# Altium footprint library TPS7A49.PcbLib: 3 footprints
Each footprint in its own frame and in the unit in brackets; x right, y up, seen from the top. Pads: shape width x height; smd on the part's side, far side on the other; paste and mask are expansions set on the pad; w line width, h text height; cw(c..) or ccw(c..) is an arc to the next point about the centre after c.
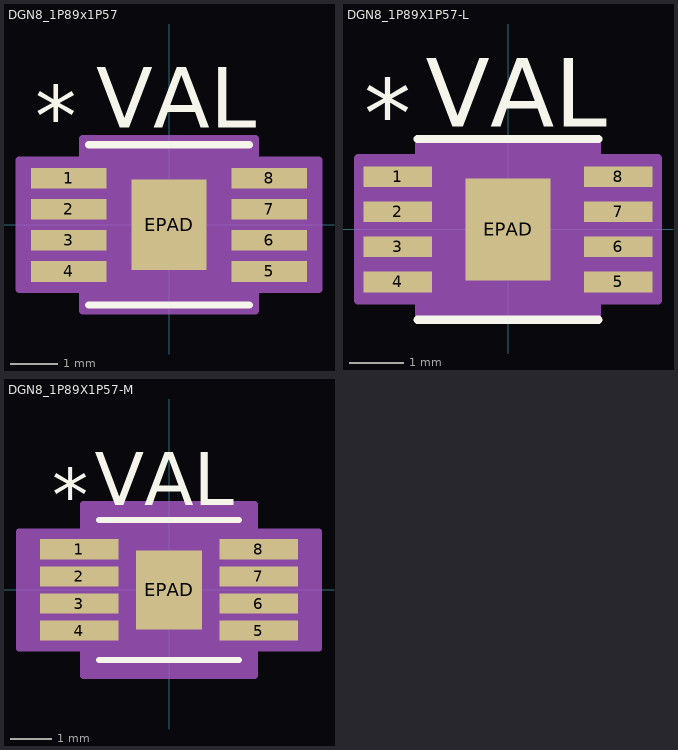
[diagram p0: the footprints below, top view; thin cyan lines are the x and y axes]

## DGN8_1P89x1P57 [mil]
pads (9):
  rect 62x17 smd: 1(-82.5,38.39) 2(-82.5,12.8) 3(-82.5,-12.8) 4(-82.5,-38.39) 5(82.5,-38.39) 6(82.5,-12.8) 7(82.5,12.8) 8(82.5,38.39)
  rect 61.81x74.41 smd paste-36.7: EPAD(0,0)
Top Overlay:
  lines w6: -66,-66 66,-66 ; -66,66 66,66
  text "VAL" at -60,80 h50
  text "*" at -110,65 h50
Top Paste:
  region: 30.91,37.2 -30.91,37.2 -30.91,-37.2 30.91,-37.2
Mechanical 13:
  lines w0: -12,61 ccw(c0,61) 12,61
  text "*" at -110,65 h50
Mechanical 15:
  region: -71,-53.18 -123.5,-53.18 -123.5,53.18 -71,53.18 -71,71 71,71 71,53.18 123.5,53.18 123.5,-53.18 71,-53.18 71,-71 -71,-71
  lines w6: -123.5,-53.18 -71,-53.18 -71,-71 71,-71 71,-53.18 123.5,-53.18 123.5,53.18 71,53.18 71,71 -71,71 -71,53.18 -123.5,53.18 -123.5,-53.18
Multi-Layer:
  text "Copyright (C) 2015 Accelerated Designs. All rights reserved" at 0,0 h1

## DGN8_1P89X1P57-L [mil]
pads (9):
  rect 50x15 smd: 1(-80.5,38.39) 2(-80.5,12.8) 3(-80.5,-12.8) 4(-80.5,-38.39) 5(80.5,-38.39) 6(80.5,-12.8) 7(80.5,12.8) 8(80.5,38.39)
  rect 61.81x74.41 smd paste-36.7: EPAD(0,0)
Top Overlay:
  lines w6: -66,-66 66,-66 ; -66,66 66,66
  text "VAL" at -60,75 h50
  text "*" at -105,60 h50
Top Paste:
  region: 30.91,37.2 -30.91,37.2 -30.91,-37.2 30.91,-37.2
Mechanical 13:
  lines w0: -12,61 ccw(c0,61) 12,61
  text "*" at -105,60 h50
Mechanical 15:
  region: -65,-51.98 -109.5,-51.98 -109.5,51.98 -65,51.98 -65,65 65,65 65,51.98 109.5,51.98 109.5,-51.98 65,-51.98 65,-65 -65,-65
  lines w6: -109.5,-51.98 -65,-51.98 -65,-65 65,-65 65,-51.98 109.5,-51.98 109.5,51.98 65,51.98 65,65 -65,65 -65,51.98 -109.5,51.98 -109.5,-51.98
Multi-Layer:
  text "Copyright (C) 2015 Accelerated Designs. All rights reserved" at 0,0 h1

## DGN8_1P89X1P57-M [mil]
pads (9):
  rect 74x19 smd: 1(-84.5,38.39) 2(-84.5,12.8) 3(-84.5,-12.8) 4(-84.5,-38.39) 5(84.5,-38.39) 6(84.5,-12.8) 7(84.5,12.8) 8(84.5,38.39)
  rect 61.81x74.41 smd paste-36.7: EPAD(0,0)
Top Overlay:
  lines w6: -66,-66 66,-66 ; -66,66 66,66
  text "*" at -110,65 h50
  text "VAL" at -70,80 h50
Top Paste:
  region: 30.91,37.2 -30.91,37.2 -30.91,-37.2 30.91,-37.2
Mechanical 13:
  lines w0: -12,61 ccw(c0,61) 12,61
  text "*" at -110,65 h50
Mechanical 15:
  region: -81,-55.18 -141.5,-55.18 -141.5,55.18 -81,55.18 -81,81 81,81 81,55.18 141.5,55.18 141.5,-55.18 81,-55.18 81,-81 -81,-81
  lines w6: -141.5,-55.18 -141.5,55.18 -81,55.18 -81,81 81,81 81,55.18 141.5,55.18 141.5,-55.18 81,-55.18 81,-81 -81,-81 -81,-55.18 -141.5,-55.18
Multi-Layer:
  text "Copyright (C) 2015 Accelerated Designs. All rights reserved" at 0,0 h1